# Altium footprint library MOLEX_2068320601.PcbLib: 1 footprints
Each footprint in its own frame and in the unit in brackets; x right, y up, seen from the top. Pads: shape width x height; smd on the part's side, far side on the other; paste and mask are expansions set on the pad; w line width, h text height; cw(c..) or ccw(c..) is an arc to the next point about the centre after c.
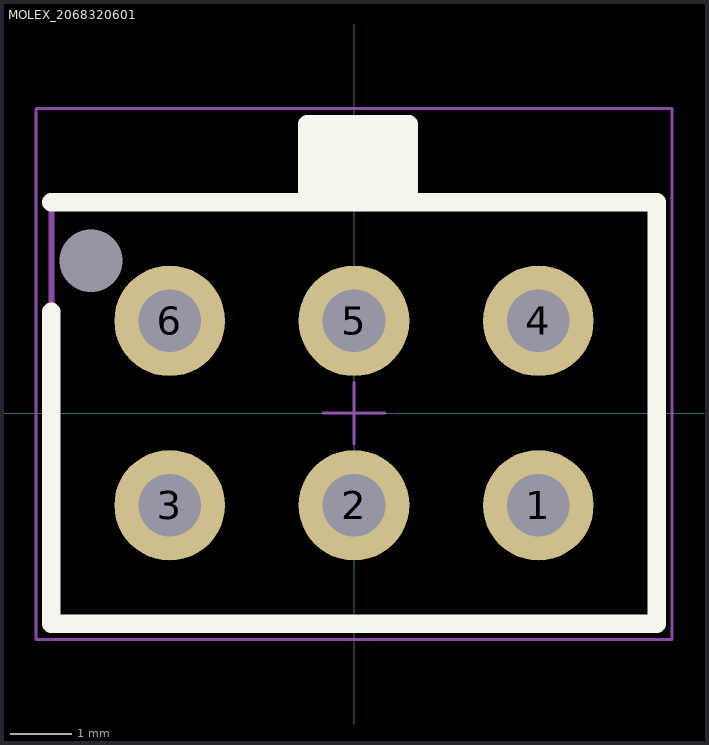
[diagram p0: the footprint, top view; thin cyan lines are the x and y axes]

## MOLEX_2068320601 [mm] "MOLEX_2068320601"
height 10.16
pads (7):
  round 1.8 hole 1.02 mask+0.05: 1(3,-1.5) 2(0,-1.5) 3(-3,-1.5) 4(3,1.5) 5(0,1.5) 6(-3,1.5)
  round 0 hole 1.02 unplated mask+0.05: ""(-4.28,2.48)
Top Overlay:
  rectangle: -0.762,3.43 0.889,4.699
  lines w0.3: -4.925,1.651 -4.925,-3.43 ; -4.925,3.43 4.925,3.43 ; -0.762,3.429 -0.762,4.699 0.889,4.699 0.889,3.429 ; -4.925,-3.43 4.925,-3.43 4.925,3.43 ; -4.925,-3.43 -4.925,-3.43 ; 4.925,3.43 4.925,3.43
Top 3D Body:
  lines w0.1: -4.925,-3.43 4.925,-3.43 4.925,3.43 -4.925,3.43 -4.925,-3.43
Top Courtyard (Mech15):
  lines w0.05: -0.5,0 0.5,0 ; 0,-0.5 0,0.5 ; -5.178,-3.683 -5.178,4.953 5.178,4.953 5.178,-3.683 -5.178,-3.683
3D body "MOLEX_2068320601.stp": height 9.95, standoff -3.14, extent -4.925,-3.43 4.925,4.83